# EAGLE library part NC7SZ157P6X (library di_ic)
TinyLogic Ultra-High-Speed Non-Inverting Multiplexer Fairchild Semiconductor http://www.fairchildsemi.com/ds/NC/NC7SZ157.pdf
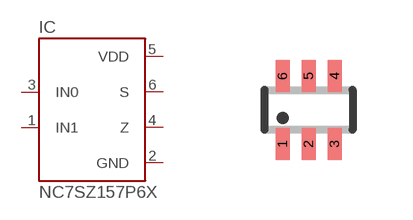
[diagram p33: symbol with the pads of SC70-6L; footprint SC70-6L]

Designator prefix IC

## NC7SZ157P6X  [SC70-6L]
1  IN1  in
2  GND  pwr
3  IN0  in
4  Z  out
5  VDD  pwr
6  S  in

## Footprint SC70-6L (pad centres in mm)
SC-70 Package
smd 0.35 x 0.8: 1 -0.65,-0.85; 2 0,-0.85; 3 0.65,-0.85; 4 0.65,0.85; 5 0,0.85; 6 -0.65,0.85